# Altium footprint library Linear_Regulator.PcbLib: 1 footprints
Each footprint in its own frame and in the unit in brackets; x right, y up, seen from the top. Pads: shape width x height; smd on the part's side, far side on the other; paste and mask are expansions set on the pad; w line width, h text height; cw(c..) or ccw(c..) is an arc to the next point about the centre after c.
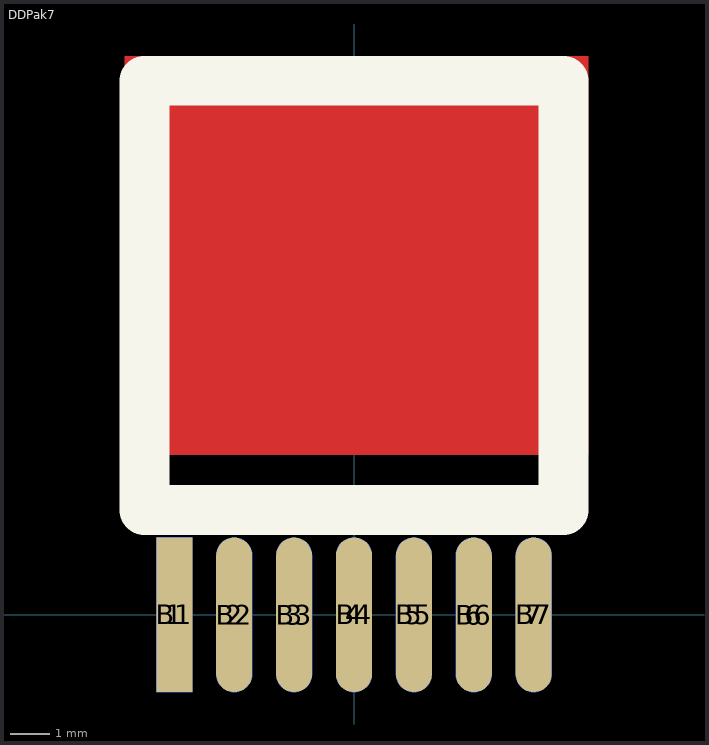
[diagram p0: the footprint, top view; thin cyan lines are the x and y axes]

## DDPak7 [mil] "7 Lead Plastic DD Pak"
pads (14):
  rect 36x155 smd: 1(-180,0)
  oval 36x155 smd: 2(-120,0) 3(-60,0) 4(0,0) 5(60,0) 6(120,0) 7(180,0)
  rect 36x155 smd far side: B1(-180,0)
  oval 36x155 smd far side: B2(-120,0) B3(-60,0) B4(0,0) B5(60,0) B6(120,0) B7(180,0)
Top Layer:
  rectangle: -230,160 235,560
Top Overlay:
  lines w50: -210,535 -210,105 205,105 ; -205,535 210,535 210,105